# EAGLE library part AD669 (library analog-devices)
Monolithic 16-BIT DACPORT source : http://www.analog.com/static/imported-files/data_sheets/AD669.pdf
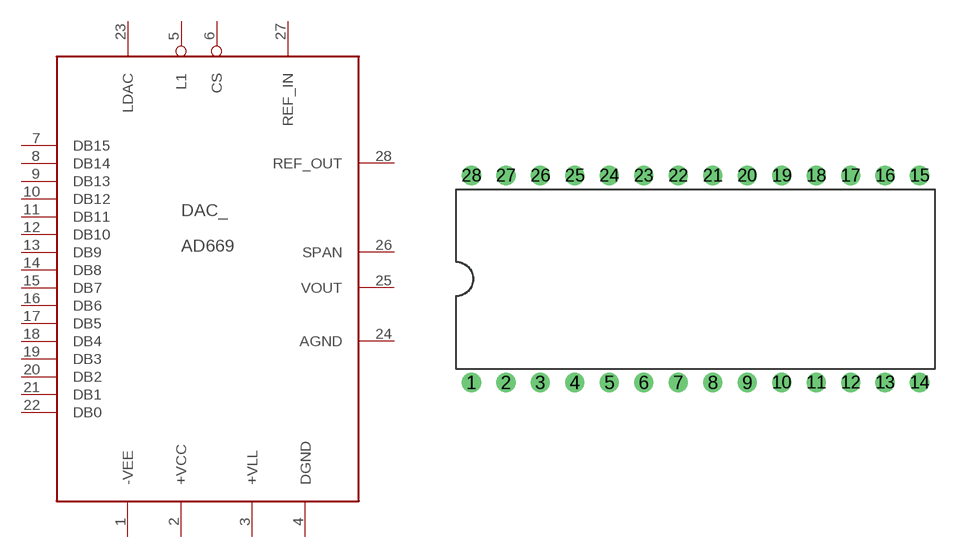
[diagram p150: symbol with the pads of DIL28-6; footprint DIL28-6]

Designator prefix DAC_

## AD669  [DIL28-6]
1  -VEE  sup
2  +VCC  sup
3  +VLL  sup
4  DGND  sup
5  L1  in
6  CS  in
7  DB15  in
8  DB14  in
9  DB13  in
10  DB12  in
11  DB11  in
12  DB10  in
13  DB9  in
14  DB8  in
15  DB7  in
16  DB6  in
17  DB5  in
18  DB4  in
19  DB3  in
20  DB2  in
21  DB1  in
22  DB0  in
23  LDAC  in
24  AGND  sup
25  VOUT  out
26  SPAN  in
27  REF_IN  in
28  REF_OUT  out

## Footprint DIL28-6 (pad centres in mm)
Dual In Line Package 0.6 inch
drill 0.813 pad 1.422 round: 1 -16.51,-7.62; 2 -13.97,-7.62; 3 -11.43,-7.62; 4 -8.89,-7.62; 5 -6.35,-7.62; 6 -3.81,-7.62; 7 -1.27,-7.62; 8 1.27,-7.62; 9 3.81,-7.62; 10 6.35,-7.62; 11 8.89,-7.62; 12 11.43,-7.62; 13 13.97,-7.62; 14 16.51,-7.62; 15 16.51,7.62; 16 13.97,7.62; 17 11.43,7.62; 18 8.89,7.62; 19 6.35,7.62; 20 3.81,7.62; 21 1.27,7.62; 22 -1.27,7.62; 23 -3.81,7.62; 24 -6.35,7.62; 25 -8.89,7.62; 26 -11.43,7.62; 27 -13.97,7.62; 28 -16.51,7.62